# EAGLE library part DIP05-1A72-12L (library selfmade)
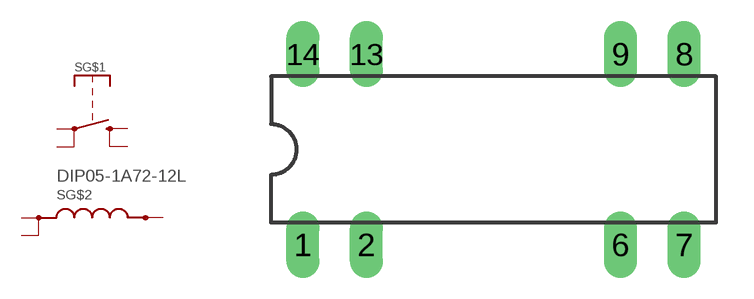
[diagram p14: symbol with the pads of DIL14/8; footprint DIL14/8]

Designator prefix S; gates G$1=DIP05-1A72-12L-SWITCH G$2=DIP05-1A72-12L-TRIGGER

## DIP05-1A72-12L  [DIL14/8]
1  G$1:SL1
2  G$2:CL1
6  G$2:CR1
7  G$1:SR1
8  G$1:SR2
13  G$2:CL2
14  G$1:SL2

## Footprint DIL14/8 (pad centres in mm)
Dual In Line Package
drill 0.813 long: 1 -7.62,-3.81; 2 -5.08,-3.81; 6 5.08,-3.81; 7 7.62,-3.81; 8 7.62,3.81; 9 5.08,3.81; 13 -5.08,3.81; 14 -7.62,3.81